# Altium schematic symbol library C_1206.SchLib: 1 symbol
Pins are listed as number, name and electrical type; pins without a type are passive.

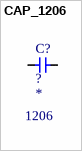
[diagram p0: symbol CAP_1206]

## CAP_1206
designator C?, comment ?  Package: 1206
Multilayer Ceramic Capacitors MLCC - SMD/SMT ROHS; Manufacturer: *; Manufacturer Part: *; Value: ?; LCSC: *; Voltage: *
footprint C1206
pins: 1, 2